# EAGLE library part HC-05 (library lib)
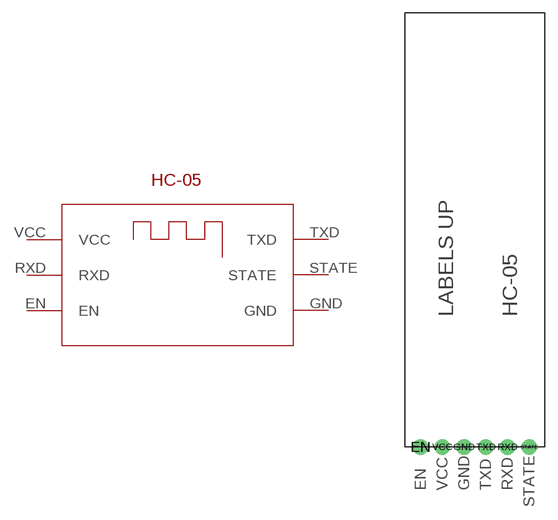
[diagram p0: symbol with the pads of HC-05; footprint HC-05]

Designator prefix -

## HC-05  [HC-05]
EN  EN
GND  GND
RXD  RXD
STATE  STATE
TXD  TXD
VCC  VCC

## Footprint HC-05 (pad centres in mm)
drill 1.016 pad 1.778: EN -6.35,0; GND -1.27,0; RXD 3.81,0; STATE 6.35,0; TXD 1.27,0; VCC -3.81,0